# EAGLE library part RASPI_FFC-15 (library USSTCM)
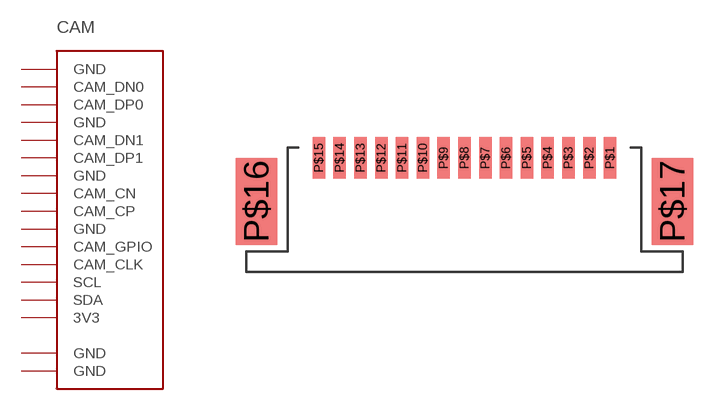
[diagram p3: symbol with the pads of RASPI_FFC-15; footprint RASPI_FFC-15]

Designator prefix CAM

## RASPI_FFC-15  [RASPI_FFC-15]
P$1  GND
P$2  CAM_DN0
P$3  CAM_DP0
P$4  GND
P$5  CAM_DN1
P$6  CAM_DP1
P$7  GND
P$8  CAM_CN
P$9  CAM_CP
P$10  GND
P$11  CAM_GPIO
P$12  CAM_CLK
P$13  SCL
P$14  SDA
P$15  3V3
P$16  GND
P$17  GND

## Footprint RASPI_FFC-15 (pad centres in mm)
smd 0.6 x 2: P$1 7,0; P$2 6,0; P$3 5,0; P$4 4,0; P$5 3,0; P$6 2,0; P$7 1,0; P$8 0,0; P$9 -1,0; P$10 -2,0; P$11 -3,0; P$12 -4,0; P$13 -5,0; P$14 -6,0; P$15 -7,0
smd 2 x 4.2: P$16 -10,-2.1; P$17 10,-2.1